# EAGLE library part PTD902 (library CYCFI_Passive)
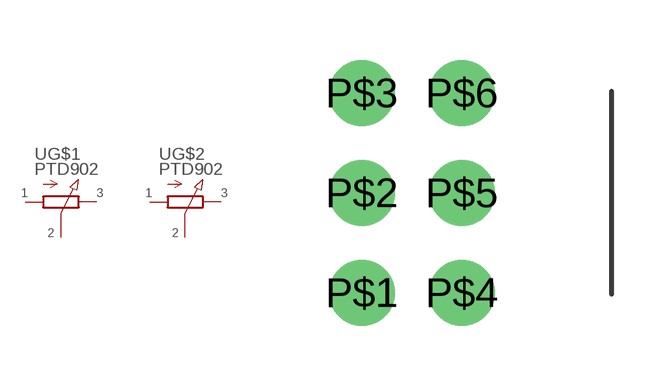
[diagram p1: symbol with the pads of PTD902; footprint PTD902]

Designator prefix -; gates G$1=POT-EU G$2=POT-EU

## PTD902  [PTD902]
P$1  G$1:1  pas
P$2  G$1:2  pas
P$3  G$1:3  pas
P$4  G$2:1  pas
P$5  G$2:2  pas
P$6  G$2:3  pas

## Footprint PTD902 (pad centres in mm)
drill 1.1: P$1 -1.25,-2.5; P$2 -1.25,0; P$3 -1.25,2.5; P$4 1.25,-2.5; P$5 1.25,0; P$6 1.25,2.5